# Altium schematic symbol library Integrated circuits.SchLib: 32 symbols (part 2 of 2)
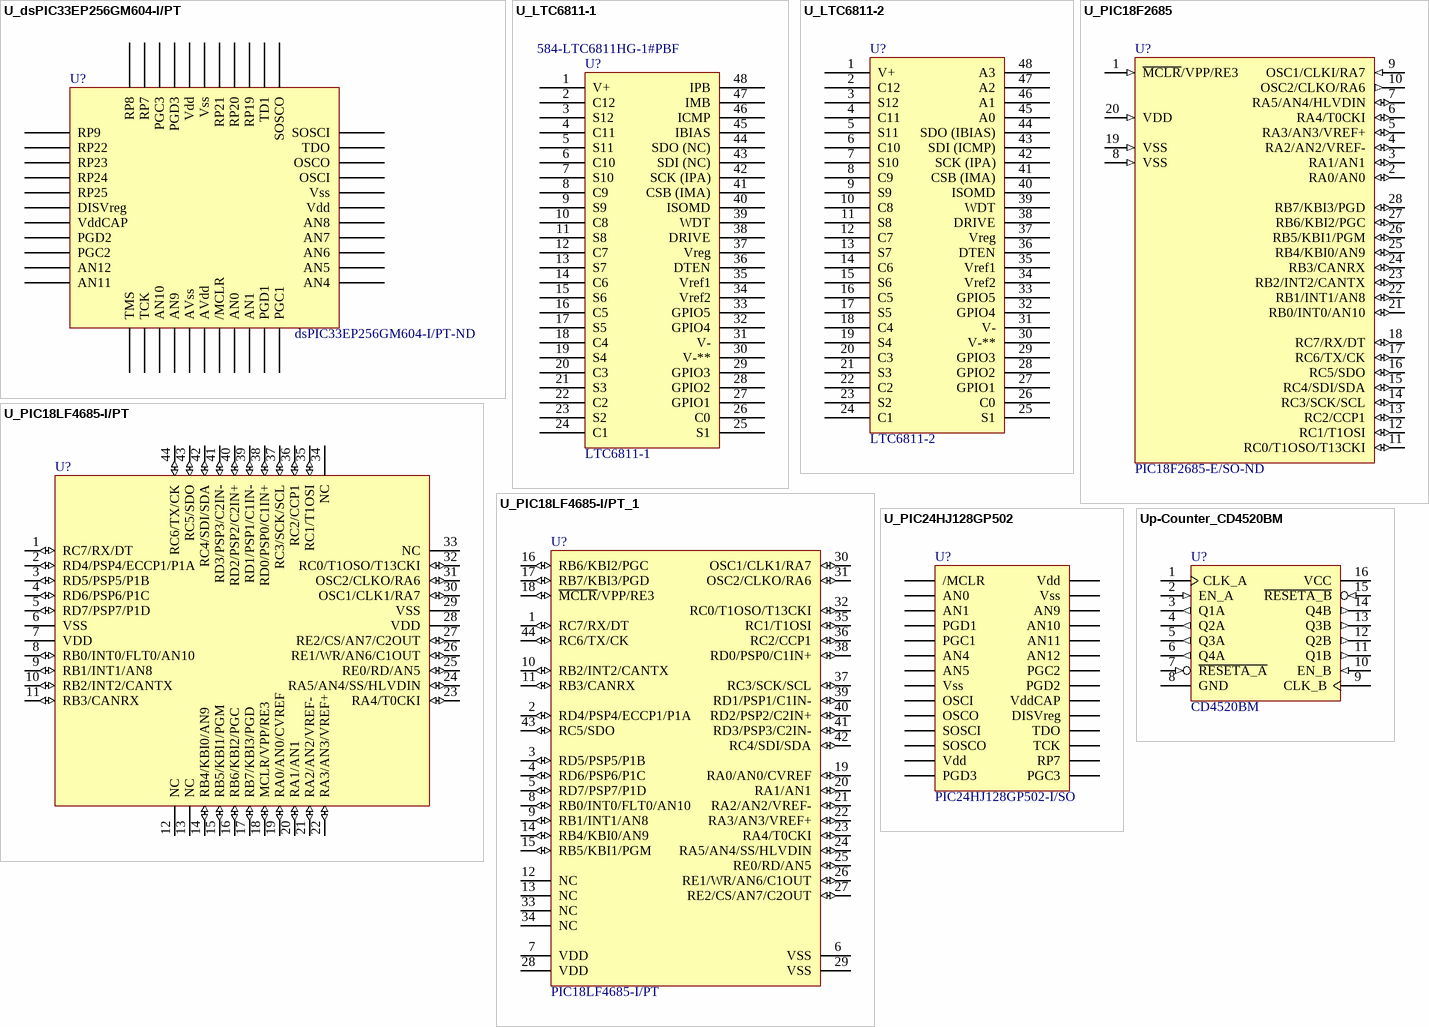
[diagram p2: symbols U_dsPIC33EP256GM604-I/PT to Up-Counter_CD4520BM]

## U_LTC6811-1
designator U?, comment Supplier Part Number 2: 584-LTC6811HG-1#PBF  (hidden comment: LTC6811-1)
12 Channel Multicell Battery Monitor with Daisy Chain Interface, Generation 4; Manufacturer 1: Analog Devices; Manufacturer: Analog Devices / Linear Technology; Manufacturer Part Number: LTC6811HG-1#PBF; .Creator: GP; ComponentLink1URL: https://www.analog.com/media/en/technical-documentation/data-sheets/ltc6811-1-6811-2.pdf; ComponentLink1Description: Datasheet; ComponentLink2Description: Where buy it; ComponentLink2URL: https://www.mouser.es/ProductDetail/Analog-Devices/LTC6811IG-23ZZTRPBF?qs=byeeYqUIh0NWJgxDt7RX5g%3D%3D; Supplier 1: Digi-Key; Category: Battery Management; RoHS Compliant: Yes; ComponentLink3URL: http://www.linear.com/docs/55980?src-supplier=Digi-Key; ComponentLink3Description: http://www.linear.com/docs/55980?src-supplier=Digi-Key; ComponentLink4URL: https://datasheet.octopart.com/LTC6811HG-1%23PBF-Analog-Devices-datasheet-138896417.pdf?src-supplier=Upverter; ComponentLink4Description: https://datasheet.octopart.com/LTC6811HG-1%23PBF-Analog-Devices-datasheet-138896417.pdf?src-supplier=Upverter; ComponentLink5URL: https://datasheet.octopart.com/LTC6811HG-1%23PBF-Linear-Technology-datasheet-66874450.pdf?src-supplier=Linear+Technology; ComponentLink5Description: https://datasheet.octopart.com/LTC6811HG-1%23PBF-Linear-Technology-datasheet-66874450.pdf?src-supplier=Linear+Technology; ComponentLink6URL: https://sigma.octopart.com/57702806/technical_drawing/Linear-Technology-LTC6811HG-1%23PBF.pdf?src-supplier=Linear+Technology; ComponentLink6Description: https://sigma.octopart.com/57702806/technical_drawing/Linear-Technology-LTC6811HG-1%23PBF.pdf?src-supplier=Linear+Technology; Supplier Part Number 1: 505-LTC6811HG-1#PBF-ND; Case/Package: SSOP; Supplier 2: Mouser; RoHS: Yes; Stock 2: 3108; Pricing 2: 1=21,6, 10=19,92, 50=19,02, 100=19,02, 1000=15,13, 10000=15,13 (USD); ComponentLink7URL: https://datasheet.octopart.com/LTC6811HG-1%23PBF-Analog-Devices-datasheet-138896417.pdf?src-supplier=Element14; ComponentLink7Description: https://datasheet.octopart.com/LTC6811HG-1%23PBF-Analog-Devices-datasheet-138896417.pdf?src-supplier=Element14; Manufacturer Part Number 1: LTC6811-1
footprint U_LTC6811G-2 (SSOP, 48-Leads, Body 12,80x5,30mm, Pitch 0,50mm, IPC Medium Density)
pins: 1 V+, 2 C12, 3 S12, 4 C11, 5 S11, 6 C10, 7 S10, 8 C9, 9 S9, 10 C8, 11 S8, 12 C7, 13 S7, 14 C6, 15 S6, 16 C5, 17 S5, 18 C4, 19 S4, 20 C3, 21 S3, 22 C2, 23 S2, 24 C1, 25 S1, 26 C0, 27 GPIO1, 28 GPIO2, 29 GPIO3, 30 V-**, 31 V-, 32 GPIO4, 33 GPIO5, 34 Vref2, 35 Vref1, 36 DTEN, 37 Vreg, 38 DRIVE, 39 WDT, 40 ISOMD, 41 CSB (IMA), 42 SCK (IPA), 43 SDI (NC), 44 SDO (NC), 45 IBIAS, 46 ICMP, 47 IMB, 48 IPB

## U_LTC6811-2
designator U?, comment LTC6811-2
Sc-Automotive Multicell Battery Stack Monitor With Addressable Isospi Interface; Manufacturer 1: Analog Devices; .Creator: GP; ComponentLink1URL: https://www.analog.com/media/en/technical-documentation/data-sheets/ltc6811-1-6811-2.pdf; ComponentLink1Description: Datasheet; ComponentLink2Description: Where buy it; ComponentLink2URL: https://www.mouser.es/ProductDetail/Analog-Devices/LTC6811IG-23ZZTRPBF?qs=byeeYqUIh0NWJgxDt7RX5g%3D%3D; Supplier 1: Digi-Key; Category: Battery Management; Pricing 1: 1=21,46000, 10=19,72200, 25=18,90400, 100=16,65600, 250=15,90600 (USD); RoHS Compliant: Yes; ComponentLink3URL: http://www.linear.com/docs/55980?src-supplier=Digi-Key; ComponentLink3Description: http://www.linear.com/docs/55980?src-supplier=Digi-Key; ComponentLink4URL: https://datasheet.octopart.com/LTC6811HG-1%23PBF-Analog-Devices-datasheet-138896417.pdf?src-supplier=Upverter; ComponentLink4Description: https://datasheet.octopart.com/LTC6811HG-1%23PBF-Analog-Devices-datasheet-138896417.pdf?src-supplier=Upverter; ComponentLink5URL: https://datasheet.octopart.com/LTC6811HG-1%23PBF-Linear-Technology-datasheet-66874450.pdf?src-supplier=Linear+Technology; ComponentLink5Description: https://datasheet.octopart.com/LTC6811HG-1%23PBF-Linear-Technology-datasheet-66874450.pdf?src-supplier=Linear+Technology; ComponentLink6URL: https://sigma.octopart.com/57702806/technical_drawing/Linear-Technology-LTC6811HG-1%23PBF.pdf?src-supplier=Linear+Technology; ComponentLink6Description: https://sigma.octopart.com/57702806/technical_drawing/Linear-Technology-LTC6811HG-1%23PBF.pdf?src-supplier=Linear+Technology; Supplier Part Number 1: 505-LTC6811HG-1#PBF-ND; Case/Package: SSOP; Manufacturer Part Number 1: LTC6811-2
footprint U_LTC6811G-2 (SSOP, 48-Leads, Body 12,80x5,30mm, Pitch 0,50mm, IPC Medium Density)
pins: 1 V+, 2 C12, 3 S12, 4 C11, 5 S11, 6 C10, 7 S10, 8 C9, 9 S9, 10 C8, 11 S8, 12 C7, 13 S7, 14 C6, 15 S6, 16 C5, 17 S5, 18 C4, 19 S4, 20 C3, 21 S3, 22 C2, 23 S2, 24 C1, 25 S1, 26 C0, 27 GPIO1, 28 GPIO2, 29 GPIO3, 30 V-**, 31 V-, 32 GPIO4, 33 GPIO5, 34 Vref2, 35 Vref1, 36 DTEN, 37 Vreg, 38 DRIVE, 39 WDT, 40 ISOMD, 41 CSB (IMA), 42 SCK (IPA), 43 SDI (ICMP), 44 SDO (IBIAS), 45 A0, 46 A1, 47 A2, 48 A3

## U_PIC18F2685
designator U?, comment Supplier Part Number 1: PIC18F2685-E/SO-ND  (hidden comment: PIC18F2685)
PIC18F2685-E/SO; 8bit PIC Microcontroller; 40MHz; 96kb; 1024 B Flash; 28-Pin SOIC; Manufacturer 1: Microchip; RAM Size: 3.25KB; Max Power Dissipation: 1W; Interface: I2C,SPI,CAN,UART,USART; Number of Timers/Counters: 4; Max Supply Voltage: 5.5V; Min Supply Voltage: 2V; Data Bus Width: 8b; Number of Programmable I/O: 28; Watchdog Timer: Yes; Access Time: 40us; Number of I/Os: 25; Number of ADC Channels: 8; Number of SPI Channels: 1; Operating Supply Voltage: 5V; .Creator: AC; Supplier 1: Digi-Key; Manufacturer Part Number 1: PIC18F2685-E/SO; RoHS: Yes; Category: Microcontrollers; Pricing 1: 81=12,58494 (USD); Mount: Surface Mount; Case/Package: SOIC; Number of Pins: 28; Min Operating Temperature: -40°C; Max Operating Temperature: 125°C; Packaging: Rail/Tube; Package Quantity: 27; Frequency: 40MHz; Max Frequency: 40MHz; Memory Type: FLASH; Memory Size: 96KB; Core Architecture: PIC; Number of I2C Channels: 1; Length: 17.9mm; Width: 7.5mm; Height: 2.35mm; Radiation Hardening: No; Lead Free: Lead Free; REACH SVHC: No SVHC; RoHS Compliant: Yes; ComponentLink1URL: https://datasheet.ciiva.com/9244/jp026433-9244309.pdf?src-supplier=Avnet; ComponentLink1Description: https://datasheet.ciiva.com/9244/jp026433-9244309.pdf?src-supplier=Avnet; ComponentLink2URL: https://datasheet.ciiva.com/7892/721078-7892299.pdf?src-supplier=Element14; ComponentLink2Description: https://datasheet.ciiva.com/7892/721078-7892299.pdf?src-supplier=Element14; ComponentLink3URL: https://datasheet.ciiva.com/1584/39761c-1584094.pdf?src-supplier=Digi-Key; ComponentLink3Description: https://datasheet.ciiva.com/1584/39761c-1584094.pdf?src-supplier=Digi-Key
footprint U_PIC18F2685 (SOIC, 28-Leads, Body 17,90x7,50mm, Pitch 1,27mm, IPC Medium Density)
pins: 1 ~{MCLR}/VPP/RE3 (in), 2 RA0/AN0 (io), 3 RA1/AN1 (io), 4 RA2/AN2/VREF- (io), 5 RA3/AN3/VREF+ (io), 6 RA4/T0CKI (io), 7 RA5/AN4/HLVDIN (io), 8 VSS (in), 9 OSC1/CLKI/RA7 (in), 10 OSC2/CLKO/RA6 (out), 11 RC0/T1OSO/T13CKI (io), 12 RC1/T1OSI (io), 13 RC2/CCP1 (io), 14 RC3/SCK/SCL (io), 15 RC4/SDI/SDA (io), 16 RC5/SDO (io), 17 RC6/TX/CK (io), 18 RC7/RX/DT (io), 19 VSS (in), 20 VDD (in), 21 RB0/INT0/AN10 (io), 22 RB1/INT1/AN8 (io), 23 RB2/INT2/CANTX (io), 24 RB3/CANRX (io), 25 RB4/KBI0/AN9 (io), 26 RB5/KBI1/PGM (io), 27 RB6/KBI2/PGC (io), 28 RB7/KBI3/PGD (io)

## U_PIC18LF4685-I/PT
designator U?, comment PIC18LF4685-I/PT  (value not drawn)
PIC18 Series 96 kB Flash 3328 B RAM 40 MHz 8-Bit Microcontroller - TQFP-44; Manufacturer 1: Microchip; Interface: I2C,SPI,CAN,UART,USART; Number of I/Os: 36; Number of Timers/Counters: 4; Max Supply Voltage: 5.5V; Min Supply Voltage: 2V; RAM Size: 3.25KB; Max Power Dissipation: 1W; Frequency: 40MHz; Data Bus Width: 8b; Number of Programmable I/O: 44; Oscillator Type: Internal; Number of ADC Channels: 11; Number of SPI Channels: 1; Watchdog Timer: Yes; Memory Size: 96KB; Access Time: 40us; Peripherals: PWM,I2C,Brown-out Detect/Reset,POR,WDT,HLVD; Core Architecture: PIC; .Creator: GP; Manufacturer Part Number 1: PIC18LF4685-I/PT; RoHS: Yes; Mount: SMD; Case/Package: TQFP; Number of Pins: 44; Min Operating Temperature: -40°C; Max Operating Temperature: 85°C; Packaging: Tray; Max Frequency: 40MHz; Number of I2C Channels: 1; Memory Type: FLASH; Number of UART Channels: 1; REACH SVHC: No SVHC; Category: Microcontroller; ComponentLink1Description: Datasheet; ComponentLink1URL: https://ww1.microchip.com/downloads/en/DeviceDoc/39761c.pdf; ComponentLink2Description: Where by it; ComponentLink2URL: *; Supplier 1: RSComponents; Manufacturer: Microchip; Manufacturer Part Number: PIC18LF4685-I/PT; Stock 1: 1; Pricing 1: 1=16,58200, 10=16,21700, 25=15,82500, 100=15,41900 (USD); Package Quantity: 160; Length: 10mm; Width: 10mm; Height: 1.05mm; Radiation Hardening: No; Lead Free: Lead Free; RoHS Compliant: Yes; ComponentLink3URL: https://datasheet.ciiva.com/9230/jp026433-9230074.pdf?src-supplier=Avnet; ComponentLink3Description: https://datasheet.ciiva.com/9230/jp026433-9230074.pdf?src-supplier=Avnet; ComponentLink4URL: https://datasheet.ciiva.com/22671/721078-22671516.pdf?src-supplier=Element14; ComponentLink4Description: https://datasheet.ciiva.com/22671/721078-22671516.pdf?src-supplier=Element14; ComponentLink5URL: https://datasheet.ciiva.com/6656/39761c-6656155.pdf?src-supplier=Digi-Key; ComponentLink5Description: https://datasheet.ciiva.com/6656/39761c-6656155.pdf?src-supplier=Digi-Key; ComponentLink6URL: https://datasheet.ciiva.com/16356/39761c-16356555.pdf?src-supplier=Future+Electronics; ComponentLink6Description: https://datasheet.ciiva.com/16356/39761c-16356555.pdf?src-supplier=Future+Electronics; ComponentLink7URL: https://datasheet.ciiva.com/41454/001084550-da-01-en-ic-pic-mcu-pic18lf4685-i-pt-tqfp-44-mcp-41454204.pdf?src-supplier=Conrad; ComponentLink7Description: https://datasheet.ciiva.com/41454/001084550-da-01-en-ic-pic-mcu-pic18lf4685-i-pt-tqfp-44-mcp-41454204.pdf?src-supplier=Conrad; Supplier Part Number 1: 8231075P
footprint U_PIC18LF4685-I/PT (TQFP, 44-Leads, Body 10,00x10,00mm, Pitch 0,80mm, IPC Low Density)
pins: 1 RC7/RX/DT (io), 2 RD4/PSP4/ECCP1/P1A (io), 3 RD5/PSP5/P1B (io), 4 RD6/PSP6/P1C (io), 5 RD7/PSP7/P1D (io), 6 VSS, 7 VDD, 8 RB0/INT0/FLT0/AN10 (io), 9 RB1/INT1/AN8 (io), 10 RB2/INT2/CANTX (io), 11 RB3/CANRX (io), 12 NC, 13 NC, 14 RB4/KBI0/AN9 (io), 15 RB5/KBI1/PGM (io), 16 RB6/KBI2/PGC (io), 17 RB7/KBI3/PGD (io), 18 MCLR/VPP/RE3 (io), 19 RA0/AN0/CVREF (io), 20 RA1/AN1 (io), 21 RA2/AN2/VREF- (io), 22 RA3/AN3/VREF+ (io), 23 RA4/T0CKI (io), 24 RA5/AN4/SS/HLVDIN (io), 25 RE0/RD/AN5 (io), 26 RE1/WR/AN6/C1OUT (io), 27 RE2/CS/AN7/C2OUT (io), 28 VDD, 29 VSS, 30 OSC1/CLK1/RA7 (io), 31 OSC2/CLKO/RA6 (io), 32 RC0/T1OSO/T13CKI (io), 33 NC, 34 NC, 35 RC1/T1OSI (io), 36 RC2/CCP1 (io), 37 RC3/SCK/SCL (io), 38 RD0/PSP0/C1IN+ (io), 39 RD1/PSP1/C1IN- (io), 40 RD2/PSP2/C2IN+ (io), 41 RD3/PSP3/C2IN- (io), 42 RC4/SDI/SDA (io), 43 RC5/SDO (io), 44 RC6/TX/CK (io)

## U_PIC18LF4685-I/PT_1
designator U?, comment PIC18LF4685-I/PT
PIC18 Series 96 kB Flash 3328 B RAM 40 MHz 8-Bit Microcontroller - TQFP-44; Manufacturer 1: Microchip; Interface: I2C,SPI,CAN,UART,USART; Number of I/Os: 36; Number of Timers/Counters: 4; Max Supply Voltage: 5.5V; Min Supply Voltage: 2V; RAM Size: 3.25KB; Max Power Dissipation: 1W; Frequency: 40MHz; Data Bus Width: 8b; Number of Programmable I/O: 44; Oscillator Type: Internal; Number of ADC Channels: 11; Number of SPI Channels: 1; Watchdog Timer: Yes; Memory Size: 96KB; Access Time: 40us; Peripherals: PWM,I2C,Brown-out Detect/Reset,POR,WDT,HLVD; Core Architecture: PIC; .Creator: GP; Manufacturer Part Number 1: PIC18LF4685-I/PT; RoHS: Yes; Mount: SMD; Case/Package: TQFP; Number of Pins: 44; Min Operating Temperature: -40°C; Max Operating Temperature: 85°C; Packaging: Tray; Max Frequency: 40MHz; Number of I2C Channels: 1; Memory Type: FLASH; Number of UART Channels: 1; REACH SVHC: No SVHC; Category: Microcontroller; ComponentLink1Description: Datasheet; ComponentLink1URL: https://ww1.microchip.com/downloads/en/DeviceDoc/39761c.pdf; ComponentLink2Description: Where by it; ComponentLink2URL: *; Supplier 1: RSComponents; Manufacturer: Microchip; Manufacturer Part Number: PIC18LF4685-I/PT; Stock 1: 1; Pricing 1: 1=16,58200, 10=16,21700, 25=15,82500, 100=15,41900 (USD); Package Quantity: 160; Length: 10mm; Width: 10mm; Height: 1.05mm; Radiation Hardening: No; Lead Free: Lead Free; RoHS Compliant: Yes; ComponentLink3URL: https://datasheet.ciiva.com/9230/jp026433-9230074.pdf?src-supplier=Avnet; ComponentLink3Description: https://datasheet.ciiva.com/9230/jp026433-9230074.pdf?src-supplier=Avnet; ComponentLink4URL: https://datasheet.ciiva.com/22671/721078-22671516.pdf?src-supplier=Element14; ComponentLink4Description: https://datasheet.ciiva.com/22671/721078-22671516.pdf?src-supplier=Element14; ComponentLink5URL: https://datasheet.ciiva.com/6656/39761c-6656155.pdf?src-supplier=Digi-Key; ComponentLink5Description: https://datasheet.ciiva.com/6656/39761c-6656155.pdf?src-supplier=Digi-Key; ComponentLink6URL: https://datasheet.ciiva.com/16356/39761c-16356555.pdf?src-supplier=Future+Electronics; ComponentLink6Description: https://datasheet.ciiva.com/16356/39761c-16356555.pdf?src-supplier=Future+Electronics; ComponentLink7URL: https://datasheet.ciiva.com/41454/001084550-da-01-en-ic-pic-mcu-pic18lf4685-i-pt-tqfp-44-mcp-41454204.pdf?src-supplier=Conrad; ComponentLink7Description: https://datasheet.ciiva.com/41454/001084550-da-01-en-ic-pic-mcu-pic18lf4685-i-pt-tqfp-44-mcp-41454204.pdf?src-supplier=Conrad; Supplier Part Number 1: 8231075P
footprint U_PIC18LF4685-I/PT (TQFP, 44-Leads, Body 10,00x10,00mm, Pitch 0,80mm, IPC Low Density)
pins: 1 RC7/RX/DT (io), 2 RD4/PSP4/ECCP1/P1A (io), 3 RD5/PSP5/P1B (io), 4 RD6/PSP6/P1C (io), 5 RD7/PSP7/P1D (io), 6 VSS, 7 VDD, 8 RB0/INT0/FLT0/AN10 (io), 9 RB1/INT1/AN8 (io), 10 RB2/INT2/CANTX (io), 11 RB3/CANRX (io), 12 NC, 13 NC, 14 RB4/KBI0/AN9 (io), 15 RB5/KBI1/PGM (io), 16 RB6/KBI2/PGC (io), 17 RB7/KBI3/PGD (io), 18 ~{MCLR}/VPP/RE3 (io), 19 RA0/AN0/CVREF (io), 20 RA1/AN1 (io), 21 RA2/AN2/VREF- (io), 22 RA3/AN3/VREF+ (io), 23 RA4/T0CKI (io), 24 RA5/AN4/SS/HLVDIN (io), 25 RE0/RD/AN5 (io), 26 RE1/WR/AN6/C1OUT (io), 27 RE2/CS/AN7/C2OUT (io), 28 VDD, 29 VSS, 30 OSC1/CLK1/RA7 (io), 31 OSC2/CLKO/RA6 (io), 32 RC0/T1OSO/T13CKI (io), 33 NC, 34 NC, 35 RC1/T1OSI (io), 36 RC2/CCP1 (io), 37 RC3/SCK/SCL (io), 38 RD0/PSP0/C1IN+ (io), 39 RD1/PSP1/C1IN- (io), 40 RD2/PSP2/C2IN+ (io), 41 RD3/PSP3/C2IN- (io), 42 RC4/SDI/SDA (io), 43 RC5/SDO (io), 44 RC6/TX/CK (io)

## U_PIC24HJ128GP502
designator U?, comment Manufacturer Part Number 1: PIC24HJ128GP502-I/SO  (hidden comment: PIC24HJ128GP502)
16-bit MCU/DSC, 128 KB, 8192 Bytes, 80 MHz, 3 to 3.6V, SOIC-28, RoHS; Manufacturer 1: Microchip; Interface: I2C,SPI,UART,CAN,IrDA,USART,LIN; RAM Size: 8KB; Number of Timers/Counters: 5; Number of Programmable I/O: 21; Data Bus Width: 16b; Memory Type: FLASH; Watchdog Timer: Yes; Max Frequency: 40MHz; Memory Size: 128KB; Core Architecture: PIC; Frequency: 80MHz; Min Supply Voltage: 3V; Number of ADC Channels: 10; Number of UART Channels: 2; Oscillator Type: Internal; Number of I2C Channels: 1; Peripherals: Brown-out Detect/Reset,POR,PWM,WDT,DMA,I2C; Number of PWM Channels: 4; Number of Bits: 16; .Creator: DR; ComponentLink1Description: Where to buy; ComponentLink1URL: https://www.mouser.es/ProductDetail/Microchip-Technology/PIC24HJ128GP502-I-SO?qs=Fllw7YelV39GXmNd3htPpg%3D%3D; ComponentLink2Description: Datasheet; ComponentLink2URL: https://www.mouser.es/datasheet/2/268/70293G-278148.pdf; Supplier 1: RSComponents; RoHS: Yes; Category: Microcontrollers; Stock 1: 1; Pricing 1: 1=8,37700, 10=7,84100, 25=7,62600, 100=6,98300 (USD); Mount: Surface Mount; Case/Package: SOIC; Number of Pins: 28; Min Operating Temperature: -40°C; Max Operating Temperature: 85°C; Packaging: Rail/Tube; Package Quantity: 27; Max Supply Voltage: 3.6V; Number of I/Os: 21; Series: PIC24H; Number of SPI Channels: 2; Number of A/D Converters: 1; Length: 17.9mm; Width: 7.5mm; Height: 2.35mm; Radiation Hardening: No; RoHS Compliant: Yes; Lead Free: Lead Free; REACH SVHC: No SVHC; ComponentLink3URL: https://datasheet.ciiva.com/41454/001084727-da-01-en-ic-mcu-pic24hj128gp502-i-so-soic-28-mcp-41454050.pdf?src-supplier=Conrad; ComponentLink3Description: https://datasheet.ciiva.com/41454/001084727-da-01-en-ic-mcu-pic24hj128gp502-i-so-soic-28-mcp-41454050.pdf?src-supplier=Conrad; ComponentLink4URL: https://datasheet.ciiva.com/14131/pic24hj2-eng-tds-14131717.pdf?src-supplier=Distrelec; ComponentLink4Description: https://datasheet.ciiva.com/14131/pic24hj2-eng-tds-14131717.pdf?src-supplier=Distrelec; ComponentLink5URL: https://datasheet.ciiva.com/7665/1669427-7665526.pdf?src-supplier=Element14; ComponentLink5Description: https://datasheet.ciiva.com/7665/1669427-7665526.pdf?src-supplier=Element14; ComponentLink6URL: https://datasheet.ciiva.com/9230/70293f-9230214.pdf?src-supplier=Avnet; ComponentLink6Description: https://datasheet.ciiva.com/9230/70293f-9230214.pdf?src-supplier=Avnet; ComponentLink7URL: https://datasheet.ciiva.com/16350/70293g-16350328.pdf?src-supplier=Future+Electronics; ComponentLink7Description: https://datasheet.ciiva.com/16350/70293g-16350328.pdf?src-supplier=Future+Electronics; ComponentLink8URL: https://datasheet.ciiva.com/1493/70293g-1493998.pdf?src-supplier=Digi-Key; ComponentLink8Description: https://datasheet.ciiva.com/1493/70293g-1493998.pdf?src-supplier=Digi-Key; Supplier Part Number 1: 0549384
footprint U_PIC24HJ128GP (SOIC, 28-Leads, Body 17,90x7,50mm, Pitch 1,27mm, IPC Medium Density)
pins: 1 /MCLR, 2 AN0, 3 AN1, 4 PGD1, 5 PGC1, 6 AN4, 7 AN5, 8 Vss, 9 OSCI, 10 OSCO, 11 SOSCI, 12 SOSCO, 13 Vdd, 14 PGD3, 15 PGC3, 16 RP7, 17 TCK, 18 TDO, 19 DISVreg, 20 VddCAP, 21 PGD2, 22 PGC2, 23 AN12, 24 AN11, 25 AN10, 26 AN9, 27 Vss, 28 Vdd

## Up-Counter_CD4520BM
designator U?, comment CD4520BM
CMOS Dual Binary Up-Counter 16-SOIC -55 to 125; Manufacturer: Texas Instruments; Min Supply Voltage: 3V; Max Supply Voltage: 18V; Propagation Delay: 650ns; Number of Elements: 2; Direction: Up,Unidirectional; Number of Bits per Element: 4; Reset: Asynchronous; Frequency: 8MHz; Sync/Async: Synchronous; Quiescent Current: 100uA; .Creator: DO; Supplier 1: Digi-Key; RoHS: Yes; Category: Counters; Stock 1: 1302; Pricing 1: 1=1,11000, 10=0,99100, 25=0,94080, 100=0,77280, 250=0,72244, 500=0,63844, 1000=0,55475 (USD); Mount: Surface Mount; Case/Package: SOIC; Number of Pins: 16; Weight: 0.004998oz; Contact Plating: Gold; Min Operating Temperature: -55°C; Max Operating Temperature: 125°C; Packaging: Rail/Tube; Package Quantity: 40; Number of Bits: 4; Logic Function: Counter; Series: 4000B; Technology: CMOS; Turn-On Delay Time: 650ns; Length: 10mm; Width: 4mm; Height: 1.5mm; Radiation Hardening: No; Lead Free: Lead Free; RoHS Compliant: Yes; REACH SVHC: No SVHC; ComponentLink1URL: https://datasheet.ciiva.com/15093/getdatasheetpartid-293403-15093688.pdf?src-supplier=Verical; ComponentLink1Description: https://datasheet.ciiva.com/15093/getdatasheetpartid-293403-15093688.pdf?src-supplier=Verical; ComponentLink2URL: https://datasheet.ciiva.com/1506/1862404-1506704.pdf?src-supplier=Element14; ComponentLink2Description: https://datasheet.ciiva.com/1506/1862404-1506704.pdf?src-supplier=Element14; ComponentLink3URL: https://datasheet.ciiva.com/6623/cd4520b-6623849.pdf?src-supplier=Digi-Key; ComponentLink3Description: https://datasheet.ciiva.com/6623/cd4520b-6623849.pdf?src-supplier=Digi-Key; ComponentLink4URL: https://datasheet.ciiva.com/14295/cd4520b-mil-14295930.pdf?src-supplier=Avnet; ComponentLink4Description: https://datasheet.ciiva.com/14295/cd4520b-mil-14295930.pdf?src-supplier=Avnet; ComponentLink5URL: https://datasheet.ciiva.com/41455/001015562-da-01-en-ic-dual-bin-up-coun-cd4520bm-soic-16-tid-41455477.pdf?src-supplier=Conrad; ComponentLink5Description: https://datasheet.ciiva.com/41455/001015562-da-01-en-ic-dual-bin-up-coun-cd4520bm-soic-16-tid-41455477.pdf?src-supplier=Conrad; ComponentLink6Description: Where buy it; ComponentLink6URL: https://www.mouser.es/ProductDetail/Texas-Instruments/CD4520BM?qs=LU5rZWrBGo14Rzz%252Bilhw2w%3D%3D; Supplier Part Number 1: 296-32927-5-ND; Manufacturer Part Number: CD4520BM
footprint Up-Counter_CD4520BM (SOIC, 16-Leads, Body 9,90x3,90mm, Pitch 1,27mm, IPC Medium Density)
pins: 1 CLK_A, 2 EN_A (in), 3 Q1A (out), 4 Q2A (out), 5 Q3A (out), 6 Q4A (out), 7 ~{RESETA_A} (in), 8 GND (power), 9 CLK_B, 10 EN_B (in), 11 Q1B (out), 12 Q2B (out), 13 Q3B (out), 14 Q4B (out), 15 ~{RESETA_B} (in), 16 VCC (power)